# Altium footprint library 二极管-整流桥.PcbLib: 45 footprints (part 1 of 3)
Each footprint in its own frame and in the unit in brackets; x right, y up, seen from the top. Pads: shape width x height; smd on the part's side, far side on the other; paste and mask are expansions set on the pad; w line width, h text height; cw(c..) or ccw(c..) is an arc to the next point about the centre after c.
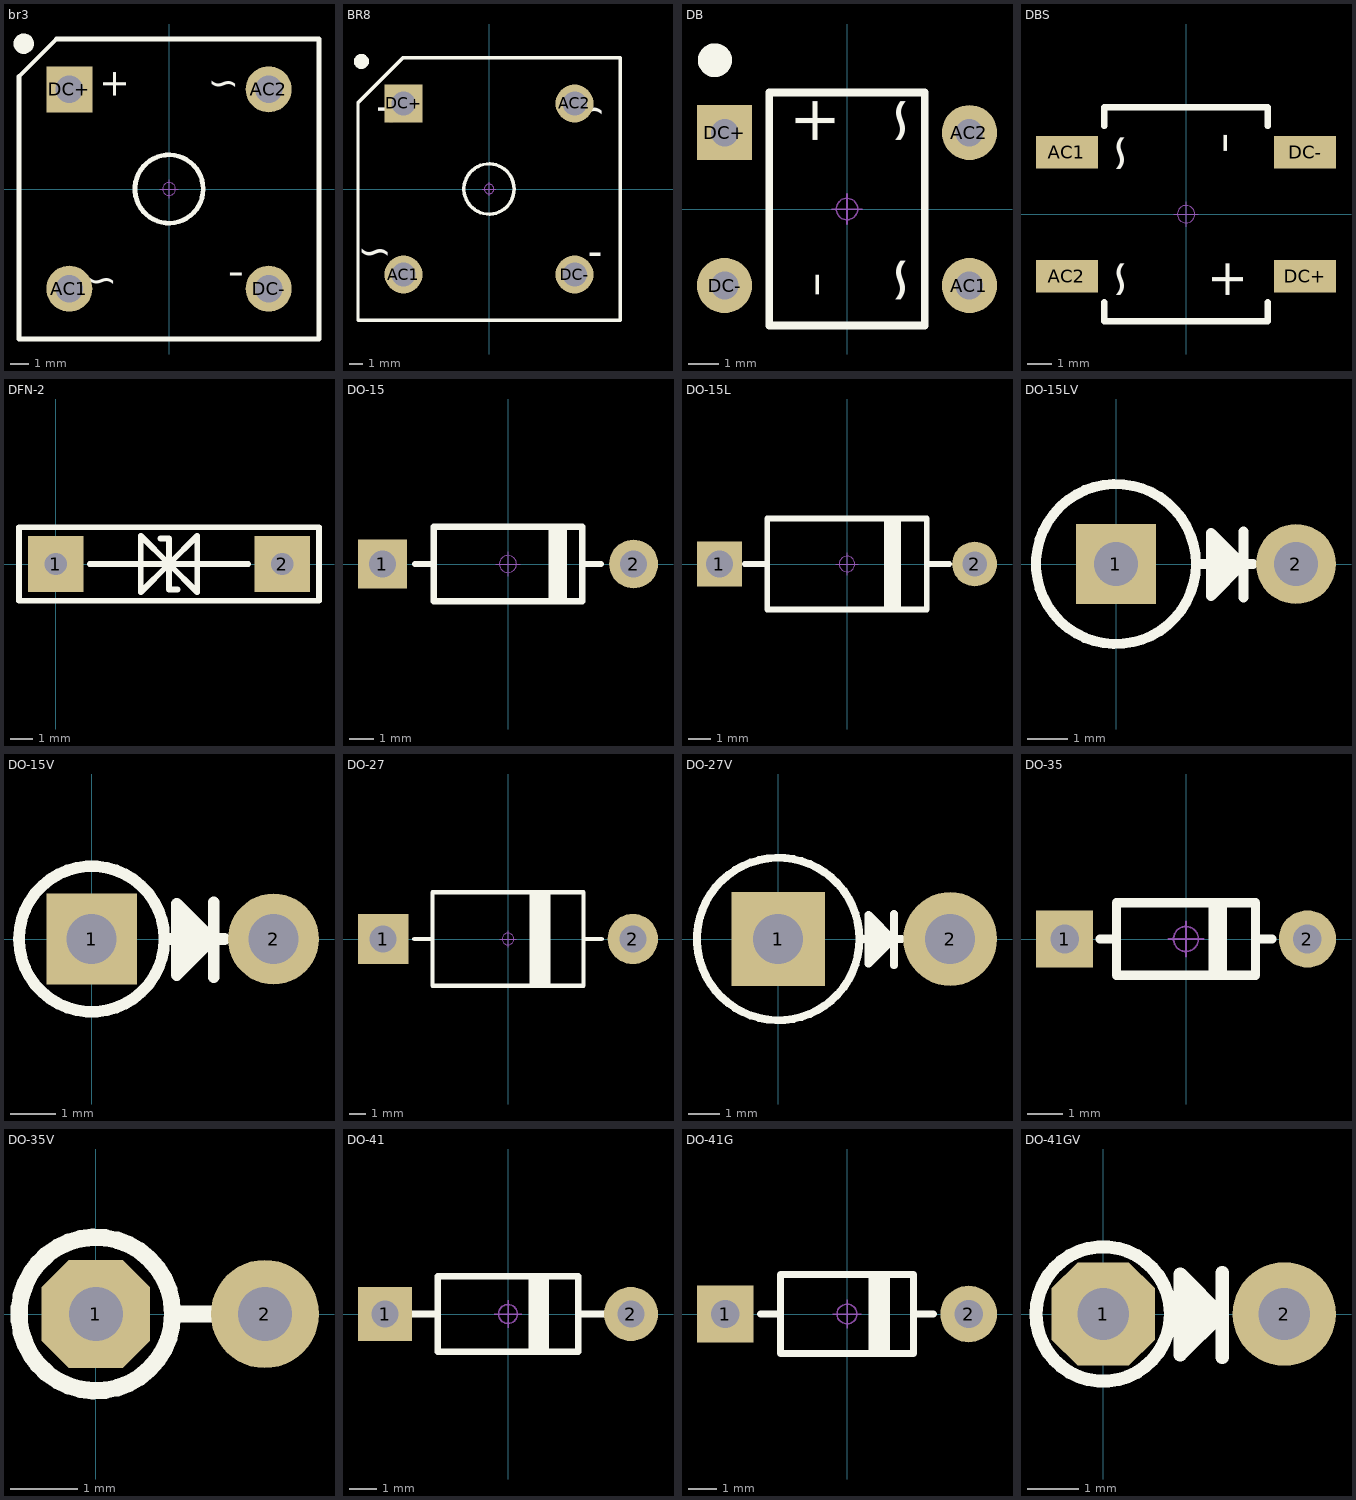
[diagram p0: the footprints below, top view; thin cyan lines are the x and y axes]

## br3 [mm] "18*7.1mm(宽高)"
pads (4):
  round 2.5 hole 1.5: AC1(-5.4,-5.4) AC2(5.4,5.4) DC-(5.4,-5.4)
  rect 2.5x2.5 hole 1.5: DC+(-5.4,5.4)
Top Overlay:
  circle w0.254: c0,0 r1.85
  circle w0.6: c-7.874,7.874 r0.254
  lines w0.254: -8.128,-8.128 -8.128,6.096 -6.096,8.128 8.128,8.128 8.128,-8.128 -8.128,-8.128
  text "+" at -4.064,4.826 h2.54
  text "-" at 4.064,-5.842 h3.05
  text "~" at 3.81,4.572 h2.54
  text "~" at -2.794,-6.096 h2.54
Mechanical 15:
  circle w0.05: c0,0 r0.35
  lines w0.05: -0.5,0 0.5,0 ; 0,-0.5 0,0.5
3D body "BR3.STEP": height 6, standoff -3.5, extent -8,-8 8,8

## BR8 [mm] "16*8mm(宽高)"
pads (4):
  round 2.8 hole 1.8: AC1(-6.3,-6.3) AC2(6.3,6.3) DC-(6.3,-6.3)
  rect 2.8x2.8 hole 1.8: DC+(-6.3,6.3)
Top Overlay:
  circle w0.254: c0,0 r1.85
  circle w0.6: c-9.398,9.398 r0.254
  lines w0.254: -9.652,-9.652 -9.652,6.35 -6.35,9.652 9.652,9.652 9.652,-9.652 -9.652,-9.652
  text "+" at -8.89,4.572 h3.81
  text "-" at 8.382,-6.35 h3.81
  text "~" at 8.636,4.064 h3.81
  text "~" at -7.112,-6.35 h3.81
Mechanical 15:
  circle w0.05: c0,0 r0.35
  lines w0.05: -0.5,0 0.5,0 ; 0,-0.5 0,0.5
3D body "BR8.STEP": height 7.1, standoff -3.5, extent -9.45,-9.45 9.45,9.45

## DB [mm] "8.5*7.6*3mm(长宽高)"
pads (4):
  round 1.8 hole 0.9: AC1(4.004,-2.5) AC2(4.004,2.5) DC-(-4.004,-2.5)
  rect 1.8x1.8 hole 0.9: DC+(-4.004,2.5)
Top Overlay:
  circle w0.6: c-4.318,4.866 r0.254
  lines w0.254: -2.54,-3.81 -2.54,3.81 2.54,3.81 2.54,-3.81 -2.54,-3.81
  text "+" at -2.159,2.032 h2.54
  text "-" at -2.159,-2.921 h3.05
  text "~" at 0.635,2.032 h2.54
  text "~" at 0.635,-3.175 h2.54
Mechanical 15:
  circle w0.05: c0,0 r0.35
  lines w0.05: -0.5,0 0.5,0 ; 0,-0.5 0,0.5
3D body "DB.STEP": height 3.2, standoff -3.01, extent -4.436,-4.25 4.436,4.25

## DBS [mm] "8.5*10.1*3mm(长宽高)"
height 12.3
pads (4):
  rect 2.5x1.3 smd: AC1(-4.8,2.5) AC2(-4.8,-2.5) DC+(4.8,-2.5) DC-(4.8,2.5)
Top Overlay:
  lines w0.254: -3.302,-3.556 -3.302,-4.318 3.302,-4.318 3.302,-3.556 ; -3.302,3.556 -3.302,4.318 3.302,4.318 3.302,3.556
  text "~" at -1.524,3.302 h2.54
  text "~" at -1.524,-1.778 h2.54
  text "-" at 2.794,3.302 h3.05
  text "+" at 2.794,-1.778 h2.54
Mechanical 15:
  circle w0.05: c0,0 r0.35
  lines w0.05: -0.5,0 0.5,0 ; 0,-0.5 0,0.5
3D body "DBS.STEP": height 3.1, standoff -0.03, extent -5.05,-4.25 5.05,4.25

## DFN-2 [mm] "1.0*0.6(长*宽）"
pads (2):
  rect 2.5x2.5 hole 1: 1(0,0) 2(10.16,0)
Top Overlay:
  lines w0.254: 1.524,0 8.636,0 ; 4.699,1.143 5.08,1.143 5.08,-1.143 5.461,-1.143 ; 5.08,0 6.35,1.27 6.35,-1.27 5.08,0 ; 5.08,0 3.81,1.27 3.81,-1.27 5.08,0 ; -1.651,-1.651 11.811,-1.651 11.811,1.651 -1.651,1.651 -1.651,-1.651

## DO-15 [mm] "3.3*10.3mm(直径，脚距）"
pads (2):
  rect 2x2 hole 1.1: 1(-5.15,0)
  round 2 hole 1.1: 2(5.15,0)
Top Overlay:
  lines w0.254: -3.81,0 -3.048,0 ; 1.778,-1.524 1.778,1.524 ; 2.032,-1.524 2.032,1.524 ; 2.286,-1.524 2.286,1.524 ; 3.048,0 3.81,0 ; -3.048,-1.524 -3.048,1.524 3.048,1.524 3.048,-1.524 -3.048,-1.524
Mechanical 15:
  circle w0.05: c0,0 r0.35
  lines w0.05: -0.5,0 0.5,0 ; 0,-0.5 0,0.5
3D body "DO-15.STEP": height 3.35, standoff -3.45, extent -5.55,-1.651 5.55,1.651

## DO-15L [mm] "4*11.4mm(直径，脚距）"
pads (2):
  rect 2x2 hole 1.2: 1(-5.7,0)
  round 2 hole 1.1: 2(5.7,0)
Top Overlay:
  lines w0.254: -4.572,0 -3.556,0 ; 1.778,-2.032 1.778,2.032 ; 2.032,-2.032 2.032,2.032 ; 2.286,-2.032 2.286,2.032 ; 3.556,0 4.572,0 ; -3.556,-2.032 -3.556,2.032 3.556,2.032 3.556,-2.032 -3.556,-2.032
Mechanical 15:
  circle w0.05: c0,0 r0.35
  lines w0.05: -0.5,0 0.5,0 ; 0,-0.5 0,0.5
3D body "DO-15L.STEP": height 4.05, standoff -3.45, extent -6.1,-2.001 6.1,2.001

## DO-15LV [mm] "4*4.5mm(直径，脚距）"
pads (2):
  rect 2x2 hole 1.1: 1(0,0)
  round 2 hole 1.1: 2(4.5,0)
Top Overlay:
  circle w0.254: c0,0 r2
  lines w0.254: 2.108,0 3.429,0 ; 2.54,0.559 2.565,-0.432 3.048,0 2.794,0.254 2.794,0 2.794,-0.254 ; 3.15,-0.02 2.377,-0.792 2.377,0.775 3.19,-0.038 ; 3.19,-0.841 3.19,0.805
3D body "DO-15L-V.STEP": height 9.45, standoff -3.45, extent -2.001,-2.001 4.9,2.001

## DO-15V [mm] "3.3*4mm(直径，脚距）"
pads (2):
  rect 2x2 hole 1.1: 1(0,0)
  round 2 hole 1.1: 2(4,0)
Top Overlay:
  circle w0.254: c0,0 r1.6
  lines w0.254: 1.6,0 2.921,0 ; 2.032,0.559 2.057,-0.432 2.54,0 2.286,0.254 2.286,0 2.286,-0.254 ; 2.642,-0.02 1.869,-0.792 1.869,0.775 2.682,-0.038 ; 2.682,-0.841 2.682,0.805
3D body "DO-15-V.STEP": height 8.35, standoff -3.45, extent -1.651,-1.651 4.4,1.651

## DO-27 [mm] "5.2*14.9mm(直径，脚距）"
pads (2):
  rect 3x3 hole 1.6: 1(-7.45,0)
  round 3 hole 1.6: 2(7.45,0)
Top Overlay:
  rectangle: 1.27,-2.794 2.54,2.794
  lines w0.254: -5.588,0 -4.572,0 ; 4.572,0 5.588,0 ; -4.5,-2.794 4.5,-2.794 4.5,2.794 -4.5,2.794 -4.5,-2.794
Mechanical 15:
  circle w0.05: c0,0 r0.35
  lines w0.05: -0.5,0 0.5,0 ; 0,-0.5 0,0.5
3D body "DO-27.STEP": height 5.25, standoff -3.46, extent -8.1,-2.601 8.1,2.601

## DO-27V [mm] "5.2*5.5mm(直径，脚距）"
pads (2):
  rect 3x3 hole 1.6: 1(0,0)
  round 3 hole 1.6: 2(5.5,0)
Top Overlay:
  circle w0.254: c0,0 r2.6
  lines w0.254: 2.616,0 3.698,0 ; 3.048,0.559 3.073,-0.432 3.556,0 ; 3.302,-0.254 3.302,0 3.302,0.254 3.556,0 ; 3.658,-0.02 2.885,-0.792 2.885,0.775 3.698,-0.038 ; 3.698,-0.841 3.698,0.805 ; 3.937,0 3.556,0
3D body "DO-27-V.STEP": height 11.7, standoff -3.46, extent -2.601,-2.601 6.15,2.601

## DO-35 [mm] "1.8*6.8mm(直径，脚距）"
pads (2):
  rect 1.6x1.6 hole 0.8: 1(-3.4,0)
  round 1.6 hole 0.8: 2(3.4,0)
Top Overlay:
  rectangle: 0.635,-1.016 1.143,1.016
  lines w0.254: -2.413,0 -1.95,0 ; 1.95,0 2.413,0 ; -1.95,-1.016 1.95,-1.016 1.95,1.016 -1.95,1.016 -1.95,-1.016
Mechanical 15:
  circle w0.05: c0,0 r0.35
  lines w0.05: -0.5,0 0.5,0 ; 0,-0.5 0,0.5
3D body "DO-35.STEP": height 1.85, standoff -3.45, extent -3.65,-0.901 3.65,0.901

## DO-35V [mm] "1.8*2.5mm(直径，脚距）"
pads (2):
  oct 1.6x1.6 hole 0.8: 1(0,0)
  round 1.6 hole 0.8: 2(2.5,0)
Top Overlay:
  circle w0.254: c0,0 r1.136
  lines w0.254: 1.136,0 1.778,0
3D body "DO-35-V.STEP": height 5.15, standoff -3.5, extent -0.901,-0.901 2.75,0.901

## DO-41 [mm] "2.6*9.1mm(直径，脚距）"
height 2.4
pads (2):
  rect 2x2 hole 1: 1(-4.55,0)
  round 2 hole 1: 2(4.55,0)
Top Overlay:
  rectangle: 0.762,-1.397 1.524,1.397
  lines w0.254: -3.556,0 -2.6,0 ; 2.6,0 3.556,0 ; -2.6,-1.397 2.6,-1.397 2.6,1.397 -2.6,1.397 -2.6,-1.397
Mechanical 15:
  circle w0.05: c0,0 r0.35
  lines w0.05: -0.5,0 0.5,0 ; 0,-0.5 0,0.5
3D body "DO-41.STEP": height 2.65, standoff -3.45, extent -4.925,-1.288 4.975,1.314

## DO-41G [mm] "2.5*8.6mm(直径，脚距）"
height 2.4
pads (2):
  rect 2x2 hole 1: 1(-4.3,0)
  round 2 hole 1: 2(4.3,0)
Top Overlay:
  rectangle: 0.762,-1.397 1.524,1.397
  lines w0.254: -3.048,0 -2.346,0 ; 2.346,0 3.048,0 ; -2.35,-1.397 2.35,-1.397 2.35,1.397 -2.35,1.397 -2.35,-1.397
Mechanical 15:
  circle w0.05: c0,0 r0.35
  lines w0.05: -0.5,0 0.5,0 ; 0,-0.5 0,0.5
3D body "DO-41G.STEP": height 2.55, standoff -3.45, extent -4.7,-1.251 4.7,1.251

## DO-41GV [mm] "2.5*3.5mm(直径，脚距）"
height 2.4
pads (2):
  oct 2x2 hole 1: 1(0,0)
  round 2 hole 1: 2(3.5,0)
Top Overlay:
  circle w0.254: c0,0 r1.3
  lines w0.254: 1.651,0.559 1.676,-0.432 2.159,0 1.905,0.254 1.905,0 1.905,-0.254 ; 2.261,-0.02 1.488,-0.792 1.488,0.775 2.301,-0.038 ; 2.301,-0.841 2.301,0.805
3D body "DO-41G-V.STEP": height 6.4, standoff -3.5, extent -1.251,-1.251 3.9,1.251